# Altium schematic symbol library TornioCeramica.SchLib: 10 symbols
Pins are listed as number, name and electrical type; pins without a type are passive.

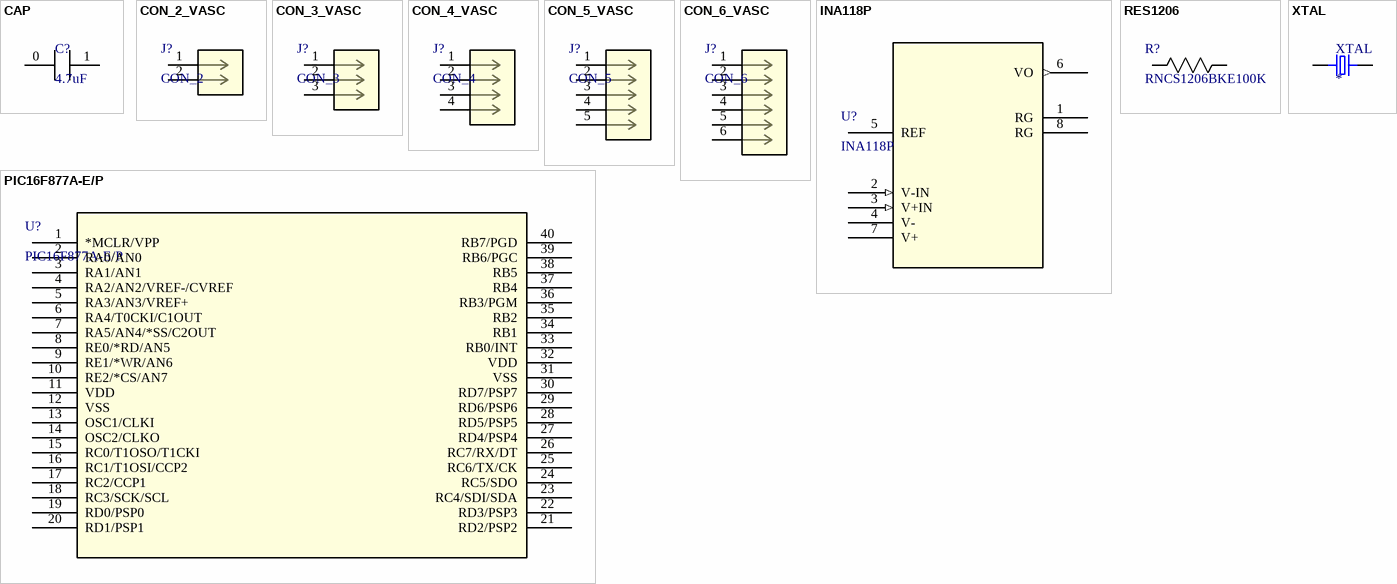
[diagram p0: symbols CAP to XTAL]

## CAP
designator C?, comment 4.7uF
footprint CAP (grid 5mm)
pins: 0, 1

## CON_2_VASC
designator J?, comment CON_2
No Description Available; Mfr_Name: JST; Manufacturer_Part_Number: B2B-XH-AM(LF)(SN); Copyright: Copyright (C) 2022 Ultra Librarian. All rights reserved.; Digi-Key_Part_Number_1: 455-2273-ND; Digi-Key_Part_Number_2: 455-2879-ND; RefDes: RefDes; Type: DEV
footprint CONN_B2B-XH-AM_JST
pins: 1, 2

## CON_3_VASC
designator J?, comment CON_3
No Description Available; Mfr_Name: JST; Manufacturer_Part_Number: B3B-XH-A(LF)(SN); Copyright: Copyright (C) 2022 Ultra Librarian. All rights reserved.; Digi-Key_Part_Number_1: 455-2248-ND; RefDes: RefDes; Type: DEV
footprint CONN_B3B-XH-A_JST
pins: 1, 2, 3

## CON_4_VASC
designator J?, comment CON_4
No Description Available; Mfr_Name: JST; Manufacturer_Part_Number: B4B-XH-A (LF)(SN); Copyright: Copyright (C) 2022 Ultra Librarian. All rights reserved.; Digi-Key_Part_Number_1: 455-2249-ND; RefDes: RefDes; Type: DEV
footprint CONN_B4B-XH-A (LF)(SN)_JST
pins: 1, 2, 3, 4

## CON_5_VASC
designator J?, comment CON_5
No Description Available; Mfr_Name: JST; Manufacturer_Part_Number: B5B-XH-A (LF)(SN); Copyright: Copyright (C) 2022 Ultra Librarian. All rights reserved.; Digi-Key_Part_Number_1: 455-2270-ND; RefDes: RefDes; Type: DEV
footprint CONN_B5B-XH-A (LF)(SN)_JST
pins: 1, 2, 3, 4, 5

## CON_6_VASC
designator J?, comment CON_6
No Description Available; Mfr_Name: JST; Manufacturer_Part_Number: B6B-XH-A(LF)(SN); Copyright: Copyright (C) 2022 Ultra Librarian. All rights reserved.; Digi-Key_Part_Number_1: 455-2271-ND; RefDes: RefDes; Type: DEV
footprint CONN_B6B-XH-A(LF)(SN)_JST
pins: 1, 2, 3, 4, 5, 6

## INA118P
designator U?
No Description Available; Mfr_Name: Texas Instruments; Copyright: Copyright (C) 2022 Ultra Librarian. All rights reserved.; Manufacturer_Part_Number: INA118P; RefDes: RefDes; Type: DEV
footprint P8
pins: 1 RG, 2 V-IN (in), 3 V+IN (in), 4 V- (power), 5 REF, 6 VO (out), 7 V+ (power), 8 RG

## PIC16F877A-E/P
designator U?
No Description Available; Mfr_Name: Microchip; Copyright: Copyright (C) 2022 Ultra Librarian. All rights reserved.; Manufacturer_Part_Number: PIC16F877A-E/P; RefDes: RefDes; Type: DEV
footprint PDIP40_600MC_MCH
pins: 1 *MCLR/VPP, 2 RA0/AN0, 3 RA1/AN1, 4 RA2/AN2/VREF-/CVREF, 5 RA3/AN3/VREF+, 6 RA4/T0CKI/C1OUT, 7 RA5/AN4/*SS/C2OUT, 8 RE0/*RD/AN5, 9 RE1/*WR/AN6, 10 RE2/*CS/AN7, 11 VDD, 12 VSS, 13 OSC1/CLKI, 14 OSC2/CLKO, 15 RC0/T1OSO/T1CKI, 16 RC1/T1OSI/CCP2, 17 RC2/CCP1, 18 RC3/SCK/SCL, 19 RD0/PSP0, 20 RD1/PSP1, 21 RD2/PSP2, 22 RD3/PSP3, 23 RC4/SDI/SDA, 24 RC5/SDO, 25 RC6/TX/CK, 26 RC7/RX/DT, 27 RD4/PSP4, 28 RD5/PSP5, 29 RD6/PSP6, 30 RD7/PSP7, 31 VSS, 32 VDD, 33 RB0/INT, 34 RB1, 35 RB2, 36 RB3/PGM, 37 RB4, 38 RB5, 39 RB6/PGC, 40 RB7/PGD

## RES1206
designator R?, comment RNCS1206BKE100K
No Description Available; Mfr_Name: Stackpole International; Value: 1; Copyright: Copyright (C) 2022 Ultra Librarian. All rights reserved.; Manufacturer_Part_Number: RNCS1206BKE100K; RefDes: RefDes; Type: DEV
footprint STA_RNCS1206_STP
pins: 1, 2

## XTAL
designator XTAL
8MHz; MF: ECS Inc.; MP: ECS-80-18-4XDN; Digi-Key_Part_Number: X1115-ND; Package: HC-49/US ECS International; Value: *; SnapEDA_Link: https://www.snapeda.com/parts/ECS-80-18-4XDN/ECS%20Inc./view-part/49558/?ref=snap; Digi-Key_Purchase_URL: https://www.digikey.in/product-detail/en/ecs-inc/ECS-80-18-4XDN/X1115-ND/827606?utm_source=snapeda&utm_medium=aggregator&utm_campaign=symbol
footprint XTAL_ECS-80-18-4XDN
pins: 1, 2